# Altium footprint library SnapEDApcb.PcbLib: 1 footprints
Each footprint in its own frame and in the unit in brackets; x right, y up, seen from the top. Pads: shape width x height; smd on the part's side, far side on the other; paste and mask are expansions set on the pad; w line width, h text height; cw(c..) or ccw(c..) is an arc to the next point about the centre after c.
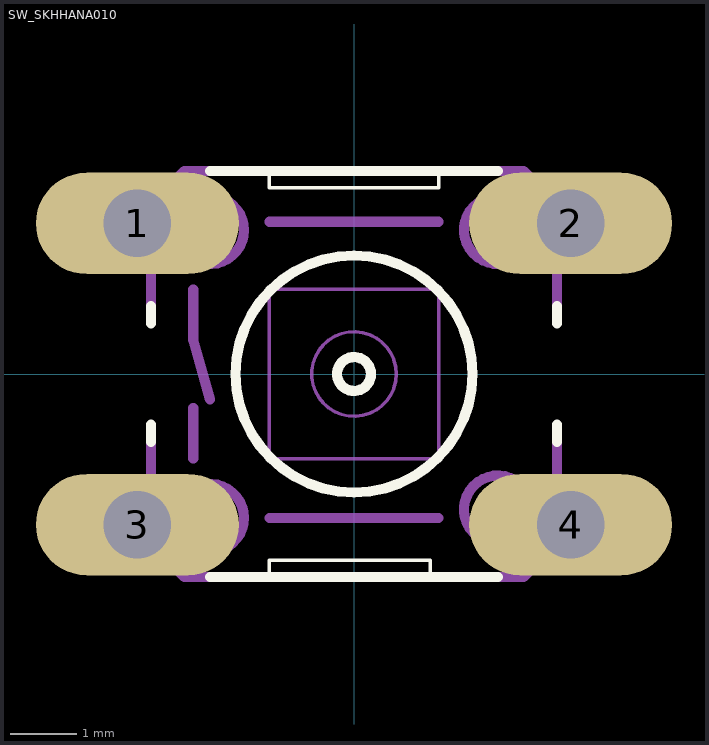
[diagram p0: the footprint, top view; thin cyan lines are the x and y axes]

## SW_SKHHANA010 [mil]
pads (4):
  oval 120x60 hole 40: 1(-128,89) 2(128,89) 3(-128,-89) 4(128,-89)
Top Overlay:
  circle w6: c0,0 r70
  circle w6: c0,0 r10
  lines w2: -50,-120 -50,-110 45,-110 45,-120 ; -50,120 -50,110 50,110 50,120
  lines w6: -120,-40 -120,-30 ; -120,30 -120,40 ; -85,-120 -50,-120 45,-120 85,-120 ; -85,120 -50,120 50,120 85,120 ; 120,-40 120,-30 ; 120,30 120,40
Mechanical 13:
  circle w6: c-85,-85 r20
  circle w6: c85,-80 r20
  circle w6: c85,85 r20
  circle w6: c-85,85 r20
  circle w2: c0,0 r25
  lines w2: -50,-50 -50,50 50,50 50,-50 -50,-50
  lines w6: -120,-40 -120,-100 -100,-120 -85,-120 ; -120,40 -120,100 -100,120 -85,120 ; -95,-50 -95,-20 ; -95,50 -95,20 -85,-15 ; -50,-85 50,-85 ; -50,90 50,90 ; 85,-120 100,-120 120,-100 120,-40 ; 85,120 100,120 120,100 120,40
  text "1" at -170.13,65.05 h50.04
  text "2" at 140.21,60.09 h50.08
  text "3" at -180.16,-110.1 h50.04
  text "4" at 140.14,-110.11 h50.05